# Altium schematic symbol library IND,10uH,250mA,Multilayer,0603.Schlib: 1 symbol
Pins are listed as number, name and electrical type; pins without a type are passive.

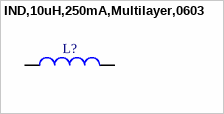
[diagram p0: symbol IND,10uH,250mA,Multilayer,0603]

## IND,10uH,250mA,Multilayer,0603
designator L?
pins: 1, 2